# Altium schematic symbol library TRANS_NPN_TIP41C.Schlib: 1 symbol
Pins are listed as number, name and electrical type; pins without a type are passive.

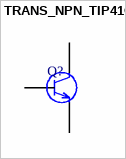
[diagram p0: symbol TRANS_NPN_TIP41C]

## TRANS_NPN_TIP41C
designator Q?, comment NPN  (value not drawn)
Bipolar (BJT) Transistor NPN 100V 6A 3MHz 2W
footprint TO220-123
footprint TO220-123 - Jacketed
pins: 1 B, 2 C, 3 E